# Altium integrated library Linear Technology Power Management Switching Regulator LT1074-LT8705.IntLib: 2252 symbols (part 115 of 148)
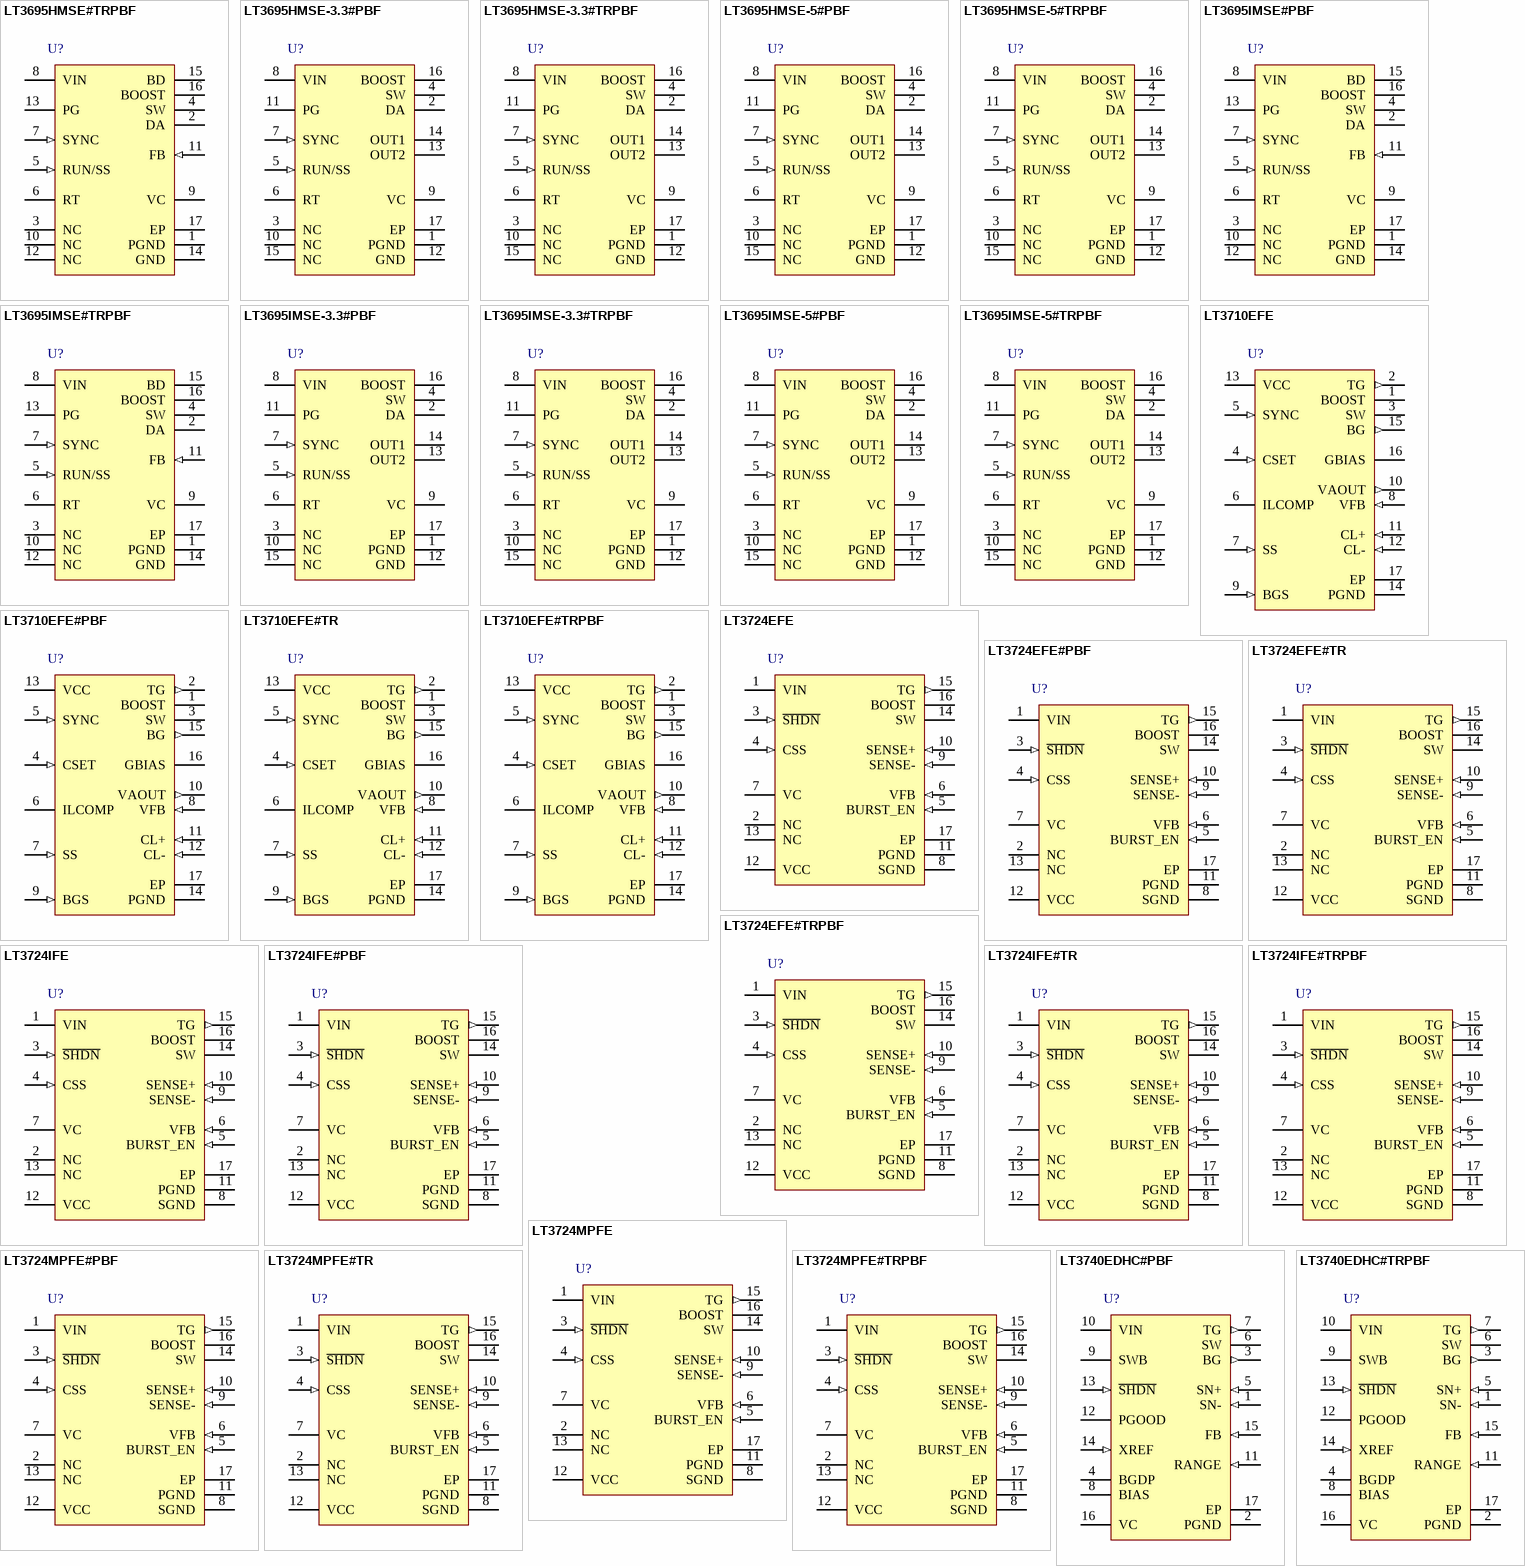
[diagram p185: symbols LT3695HMSE#TRPBF to LT3740EDHC#TRPBF]

## LT3695HMSE-3.3#PBF
designator U?
1 A Fault Tolerant Micropower Step-Down Regulator, 16-pin SOP (MSE-16-EDP), -40 to 150 degC, Pb-Free,; Manufacturer: Linear Technology; PartNumber: LT3695HMSE-3.3#PBF; Frequency Adjust Range: 250kHz - 2.2MHz; Number of Outputs: 1; Over Voltage Protection(V): 60; DatasheetVersion: Rev. A; PackageVersion: Rev. F, 05/2013; PackageReference: MSE-16; PackageDescription: 16-Pin Plastic MSOP, Exposed Die Pad, Body 4.039 x 3 mm, Pitch 0.5 mm; Supplier 1: Digi-Key; Supplier Part Number 1: LT3695HMSE-3.3#PBF-ND; Supplier 2: Farnell; Supplier Part Number 2: 1839235; Supplier 3: Newark; Supplier Part Number 3: 51R1546; RoHS: TRUE; Mounting Technology: Surface Mount; ComponentLink1Description: Manufacturer URL; ComponentLink1URL: http://www.linear.com/; ComponentLink2Description: Datasheet; ComponentLink2URL: http://cds.linear.com/docs/en/datasheet/3695fa.pdf; ComponentLink3Description: Package Specification; ComponentLink3URL: http://cds.linear.com/docs/en/packaging/05081667_F_MSE16.pdf
footprint LT-MSE-16-EDP_N (SOP, 16-Leads, Body 4.1x3.1mm, Pitch 0.5mm, Thermal Pad 2.95x1.76mm, IPC Medium Density)
footprint LT-MSE-16-EDP_L (SOP, 16-Leads, Body 4.1x3.1mm, Pitch 0.5mm, Thermal Pad 2.95x1.76mm, IPC High Density)
footprint LT-MSE-16-EDP_M (SOP, 16-Leads, Body 4.1x3.1mm, Pitch 0.5mm, Thermal Pad 2.95x1.76mm, IPC Low Density)
pins: 1 PGND (power) "This is the power ground used by the catch diode (D1 in the Block Diagram) when its anode is connected to the DA pin. The exposed pad may be soldered to the PCB in order to lower the thermal resistance.", 2 DA "Connect the anode of the catch diode (D1) to this pin. Internal circuitry senses the current through the catch diode providing frequency foldback in extreme situations.", 3 NC "No Connects. These pins are not connected to internal circuitry and must be left floating to ensure fault tolerance.", 4 SW (power) "The SW pin is the output of the internal power switch. Connect this pin to the inductor, catch diode and boost capacitor.", 5 RUN/SS (in) "The RUN/SS pin is used to put the LT3695 regulators in shutdown mode. Tie to ground to shut down the LT3695 regulators. Tie to 2.5V or more for normal operation. RUN/SS also provides a soft-start function; see the (See Datasheet)", 6 RT "Oscillator Resistor Input. Connect a resistor from this pin to ground to set the switching frequency.", 7 SYNC (in) "This is the external clock synchronization input. Ground this pin with a 100k resistor for low ripple Burst Mode operation at low output loads. Tie to 0.8V or more for pulse-skipping mode operation. Tie to a clock source for (See Datasheet)", 8 VIN (power) "The VIN pin supplies current to the internal regulator and to the internal power switch. This pin must be locally bypassed.", 9 VC "The VC pin is the output of the internal error amplifier. The voltage on this pin controls the peak switch current. Tie an RC network from this pin to ground to compensate the control loop.", 10 NC "No Connects. These pins are not connected to internal circuitry and must be left floating to ensure fault tolerance.", 11 PG (oc) "The PG pin is the open-collector output of an internal comparator. PG remains low until the FB pin (LT3695) or the OUT1,2 pins (LT3695-3.3, LT3695-5) are within 10% of the fi nal regulation voltage. PG output is valid when (See Datasheet)", 12 GND (power) "The GND pin is the ground of all the internal circuitry. Tie directly to the local GND plane.", 13 OUT2 (power) "These pins connect to the anode of the boost Schottky diode and also supply current to the internal regulator. They also connect to the internal feedback resistors and must be connected to the output.", 14 OUT1 (power) "These pins connect to the anode of the boost Schottky diode and also supply current to the internal regulator. They also connect to the internal feedback resistors and must be connected to the output.", 15 NC "No Connects. These pins are not connected to internal circuitry and must be left floating to ensure fault tolerance.", 16 BOOST "This pin is used to provide a drive voltage, higher than the input voltage, to the internal bipolar NPN power switch. Connect a capacitor (typically 0.22uF) between BOOST and SW.", 17 EP (power) "This is the power ground used by the catch diode (D1 in the Block Diagram) when its anode is connected to the DA pin. The exposed pad may be soldered to the PCB in order to lower the thermal resistance."

## LT3695HMSE-3.3#TRPBF
designator U?
1 A Fault Tolerant Micropower Step-Down Regulator, 16-pin SOP (MSE-16-EDP), -40 to 150 degC, Pb-Free, Tape and Reel; Manufacturer: Linear Technology; PartNumber: LT3695HMSE-3.3#TRPBF; Frequency Adjust Range: 250kHz - 2.2MHz; Number of Outputs: 1; Over Voltage Protection(V): 60; DatasheetVersion: Rev. A; PackageVersion: Rev. F, 05/2013; PackageReference: MSE-16; PackageDescription: 16-Pin Plastic MSOP, Exposed Die Pad, Body 4.039 x 3 mm, Pitch 0.5 mm; Supplier 1: Digi-Key; Supplier Part Number 1: LT3695HMSE-3.3#TRPBF-ND; Packing: Tape and Reel; RoHS: TRUE; Mounting Technology: Surface Mount; ComponentLink1Description: Manufacturer URL; ComponentLink1URL: http://www.linear.com/; ComponentLink2Description: Datasheet; ComponentLink2URL: http://cds.linear.com/docs/en/datasheet/3695fa.pdf; ComponentLink3Description: Package Specification; ComponentLink3URL: http://cds.linear.com/docs/en/packaging/05081667_F_MSE16.pdf
footprint LT-MSE-16-EDP_N (SOP, 16-Leads, Body 4.1x3.1mm, Pitch 0.5mm, Thermal Pad 2.95x1.76mm, IPC Medium Density)
footprint LT-MSE-16-EDP_L (SOP, 16-Leads, Body 4.1x3.1mm, Pitch 0.5mm, Thermal Pad 2.95x1.76mm, IPC High Density)
footprint LT-MSE-16-EDP_M (SOP, 16-Leads, Body 4.1x3.1mm, Pitch 0.5mm, Thermal Pad 2.95x1.76mm, IPC Low Density)
pins: 1 PGND (power) "This is the power ground used by the catch diode (D1 in the Block Diagram) when its anode is connected to the DA pin. The exposed pad may be soldered to the PCB in order to lower the thermal resistance.", 2 DA "Connect the anode of the catch diode (D1) to this pin. Internal circuitry senses the current through the catch diode providing frequency foldback in extreme situations.", 3 NC "No Connects. These pins are not connected to internal circuitry and must be left floating to ensure fault tolerance.", 4 SW (power) "The SW pin is the output of the internal power switch. Connect this pin to the inductor, catch diode and boost capacitor.", 5 RUN/SS (in) "The RUN/SS pin is used to put the LT3695 regulators in shutdown mode. Tie to ground to shut down the LT3695 regulators. Tie to 2.5V or more for normal operation. RUN/SS also provides a soft-start function; see the (See Datasheet)", 6 RT "Oscillator Resistor Input. Connect a resistor from this pin to ground to set the switching frequency.", 7 SYNC (in) "This is the external clock synchronization input. Ground this pin with a 100k resistor for low ripple Burst Mode operation at low output loads. Tie to 0.8V or more for pulse-skipping mode operation. Tie to a clock source for (See Datasheet)", 8 VIN (power) "The VIN pin supplies current to the internal regulator and to the internal power switch. This pin must be locally bypassed.", 9 VC "The VC pin is the output of the internal error amplifier. The voltage on this pin controls the peak switch current. Tie an RC network from this pin to ground to compensate the control loop.", 10 NC "No Connects. These pins are not connected to internal circuitry and must be left floating to ensure fault tolerance.", 11 PG (oc) "The PG pin is the open-collector output of an internal comparator. PG remains low until the FB pin (LT3695) or the OUT1,2 pins (LT3695-3.3, LT3695-5) are within 10% of the fi nal regulation voltage. PG output is valid when (See Datasheet)", 12 GND (power) "The GND pin is the ground of all the internal circuitry. Tie directly to the local GND plane.", 13 OUT2 (power) "These pins connect to the anode of the boost Schottky diode and also supply current to the internal regulator. They also connect to the internal feedback resistors and must be connected to the output.", 14 OUT1 (power) "These pins connect to the anode of the boost Schottky diode and also supply current to the internal regulator. They also connect to the internal feedback resistors and must be connected to the output.", 15 NC "No Connects. These pins are not connected to internal circuitry and must be left floating to ensure fault tolerance.", 16 BOOST "This pin is used to provide a drive voltage, higher than the input voltage, to the internal bipolar NPN power switch. Connect a capacitor (typically 0.22uF) between BOOST and SW.", 17 EP (power) "This is the power ground used by the catch diode (D1 in the Block Diagram) when its anode is connected to the DA pin. The exposed pad may be soldered to the PCB in order to lower the thermal resistance."

## LT3695HMSE-5#PBF
designator U?
1 A Fault Tolerant Micropower Step-Down Regulator, 16-pin SOP (MSE-16-EDP), -40 to 150 degC, Pb-Free; Manufacturer: Linear Technology; PartNumber: LT3695HMSE-5#PBF; Frequency Adjust Range: 250kHz - 2.2MHz; Number of Outputs: 1; Over Voltage Protection(V): 60; DatasheetVersion: Rev. A; PackageVersion: Rev. F, 05/2013; PackageReference: MSE-16; PackageDescription: 16-Pin Plastic MSOP, Exposed Die Pad, Body 4.039 x 3 mm, Pitch 0.5 mm; Supplier 1: Digi-Key; Supplier Part Number 1: LT3695HMSE-5#PBF-ND; Supplier 2: Farnell; Supplier Part Number 2: 1839236; Supplier 3: Newark; Supplier Part Number 3: 51R1547; RoHS: TRUE; Mounting Technology: Surface Mount; ComponentLink1Description: Manufacturer URL; ComponentLink1URL: http://www.linear.com/; ComponentLink2Description: Datasheet; ComponentLink2URL: http://cds.linear.com/docs/en/datasheet/3695fa.pdf; ComponentLink3Description: Package Specification; ComponentLink3URL: http://cds.linear.com/docs/en/packaging/05081667_F_MSE16.pdf
footprint LT-MSE-16-EDP_N (SOP, 16-Leads, Body 4.1x3.1mm, Pitch 0.5mm, Thermal Pad 2.95x1.76mm, IPC Medium Density)
footprint LT-MSE-16-EDP_L (SOP, 16-Leads, Body 4.1x3.1mm, Pitch 0.5mm, Thermal Pad 2.95x1.76mm, IPC High Density)
footprint LT-MSE-16-EDP_M (SOP, 16-Leads, Body 4.1x3.1mm, Pitch 0.5mm, Thermal Pad 2.95x1.76mm, IPC Low Density)
pins: 1 PGND (power) "This is the power ground used by the catch diode (D1 in the Block Diagram) when its anode is connected to the DA pin. The exposed pad may be soldered to the PCB in order to lower the thermal resistance.", 2 DA "Connect the anode of the catch diode (D1) to this pin. Internal circuitry senses the current through the catch diode providing frequency foldback in extreme situations.", 3 NC "No Connects. These pins are not connected to internal circuitry and must be left floating to ensure fault tolerance.", 4 SW (power) "The SW pin is the output of the internal power switch. Connect this pin to the inductor, catch diode and boost capacitor.", 5 RUN/SS (in) "The RUN/SS pin is used to put the LT3695 regulators in shutdown mode. Tie to ground to shut down the LT3695 regulators. Tie to 2.5V or more for normal operation. RUN/SS also provides a soft-start function; see the (See Datasheet)", 6 RT "Oscillator Resistor Input. Connect a resistor from this pin to ground to set the switching frequency.", 7 SYNC (in) "This is the external clock synchronization input. Ground this pin with a 100k resistor for low ripple Burst Mode operation at low output loads. Tie to 0.8V or more for pulse-skipping mode operation. Tie to a clock source for (See Datasheet)", 8 VIN (power) "The VIN pin supplies current to the internal regulator and to the internal power switch. This pin must be locally bypassed.", 9 VC "The VC pin is the output of the internal error amplifier. The voltage on this pin controls the peak switch current. Tie an RC network from this pin to ground to compensate the control loop.", 10 NC "No Connects. These pins are not connected to internal circuitry and must be left floating to ensure fault tolerance.", 11 PG (oc) "The PG pin is the open-collector output of an internal comparator. PG remains low until the FB pin (LT3695) or the OUT1,2 pins (LT3695-3.3, LT3695-5) are within 10% of the fi nal regulation voltage. PG output is valid when (See Datasheet)", 12 GND (power) "The GND pin is the ground of all the internal circuitry. Tie directly to the local GND plane.", 13 OUT2 (power) "These pins connect to the anode of the boost Schottky diode and also supply current to the internal regulator. They also connect to the internal feedback resistors and must be connected to the output.", 14 OUT1 (power) "These pins connect to the anode of the boost Schottky diode and also supply current to the internal regulator. They also connect to the internal feedback resistors and must be connected to the output.", 15 NC "No Connects. These pins are not connected to internal circuitry and must be left floating to ensure fault tolerance.", 16 BOOST "This pin is used to provide a drive voltage, higher than the input voltage, to the internal bipolar NPN power switch. Connect a capacitor (typically 0.22uF) between BOOST and SW.", 17 EP (power) "This is the power ground used by the catch diode (D1 in the Block Diagram) when its anode is connected to the DA pin. The exposed pad may be soldered to the PCB in order to lower the thermal resistance."

## LT3695HMSE-5#TRPBF
designator U?
1 A Fault Tolerant Micropower Step-Down Regulator, 16-pin SOP (MSE-16-EDP), -40 to 150 degC, Pb-Free, Tape and Reel; Manufacturer: Linear Technology; PartNumber: LT3695HMSE-5#TRPBF; Frequency Adjust Range: 250kHz - 2.2MHz; Number of Outputs: 1; Over Voltage Protection(V): 60; DatasheetVersion: Rev. A; PackageVersion: Rev. F, 05/2013; PackageReference: MSE-16; PackageDescription: 16-Pin Plastic MSOP, Exposed Die Pad, Body 4.039 x 3 mm, Pitch 0.5 mm; Supplier 1: Digi-Key; Supplier Part Number 1: LT3695HMSE-5#TRPBF-ND; Packing: Tape and Reel; RoHS: TRUE; Mounting Technology: Surface Mount; ComponentLink1Description: Manufacturer URL; ComponentLink1URL: http://www.linear.com/; ComponentLink2Description: Datasheet; ComponentLink2URL: http://cds.linear.com/docs/en/datasheet/3695fa.pdf; ComponentLink3Description: Package Specification; ComponentLink3URL: http://cds.linear.com/docs/en/packaging/05081667_F_MSE16.pdf
footprint LT-MSE-16-EDP_N (SOP, 16-Leads, Body 4.1x3.1mm, Pitch 0.5mm, Thermal Pad 2.95x1.76mm, IPC Medium Density)
footprint LT-MSE-16-EDP_L (SOP, 16-Leads, Body 4.1x3.1mm, Pitch 0.5mm, Thermal Pad 2.95x1.76mm, IPC High Density)
footprint LT-MSE-16-EDP_M (SOP, 16-Leads, Body 4.1x3.1mm, Pitch 0.5mm, Thermal Pad 2.95x1.76mm, IPC Low Density)
pins: 1 PGND (power) "This is the power ground used by the catch diode (D1 in the Block Diagram) when its anode is connected to the DA pin. The exposed pad may be soldered to the PCB in order to lower the thermal resistance.", 2 DA "Connect the anode of the catch diode (D1) to this pin. Internal circuitry senses the current through the catch diode providing frequency foldback in extreme situations.", 3 NC "No Connects. These pins are not connected to internal circuitry and must be left floating to ensure fault tolerance.", 4 SW (power) "The SW pin is the output of the internal power switch. Connect this pin to the inductor, catch diode and boost capacitor.", 5 RUN/SS (in) "The RUN/SS pin is used to put the LT3695 regulators in shutdown mode. Tie to ground to shut down the LT3695 regulators. Tie to 2.5V or more for normal operation. RUN/SS also provides a soft-start function; see the (See Datasheet)", 6 RT "Oscillator Resistor Input. Connect a resistor from this pin to ground to set the switching frequency.", 7 SYNC (in) "This is the external clock synchronization input. Ground this pin with a 100k resistor for low ripple Burst Mode operation at low output loads. Tie to 0.8V or more for pulse-skipping mode operation. Tie to a clock source for (See Datasheet)", 8 VIN (power) "The VIN pin supplies current to the internal regulator and to the internal power switch. This pin must be locally bypassed.", 9 VC "The VC pin is the output of the internal error amplifier. The voltage on this pin controls the peak switch current. Tie an RC network from this pin to ground to compensate the control loop.", 10 NC "No Connects. These pins are not connected to internal circuitry and must be left floating to ensure fault tolerance.", 11 PG (oc) "The PG pin is the open-collector output of an internal comparator. PG remains low until the FB pin (LT3695) or the OUT1,2 pins (LT3695-3.3, LT3695-5) are within 10% of the fi nal regulation voltage. PG output is valid when (See Datasheet)", 12 GND (power) "The GND pin is the ground of all the internal circuitry. Tie directly to the local GND plane.", 13 OUT2 (power) "These pins connect to the anode of the boost Schottky diode and also supply current to the internal regulator. They also connect to the internal feedback resistors and must be connected to the output.", 14 OUT1 (power) "These pins connect to the anode of the boost Schottky diode and also supply current to the internal regulator. They also connect to the internal feedback resistors and must be connected to the output.", 15 NC "No Connects. These pins are not connected to internal circuitry and must be left floating to ensure fault tolerance.", 16 BOOST "This pin is used to provide a drive voltage, higher than the input voltage, to the internal bipolar NPN power switch. Connect a capacitor (typically 0.22uF) between BOOST and SW.", 17 EP (power) "This is the power ground used by the catch diode (D1 in the Block Diagram) when its anode is connected to the DA pin. The exposed pad may be soldered to the PCB in order to lower the thermal resistance."

## LT3695IMSE#PBF
designator U?
1 A Fault Tolerant Micropower Step-Down Regulator, 16-pin SOP (MSE-16-EDP), -40 to 125 degC, Pb-Free; Manufacturer: Linear Technology; PartNumber: LT3695IMSE#PBF; Frequency Adjust Range: 250kHz - 2.2MHz; Number of Outputs: 1; Over Voltage Protection(V): 60; DatasheetVersion: Rev. A; PackageVersion: Rev. F, 05/2013; PackageReference: MSE-16; PackageDescription: 16-Pin Plastic MSOP, Exposed Die Pad, Body 4.039 x 3 mm, Pitch 0.5 mm; Supplier 1: Digi-Key; Supplier Part Number 1: LT3695IMSE#PBF-ND; RoHS: TRUE; Mounting Technology: Surface Mount; ComponentLink1Description: Manufacturer URL; ComponentLink1URL: http://www.linear.com/; ComponentLink2Description: Datasheet; ComponentLink2URL: http://cds.linear.com/docs/en/datasheet/3695fa.pdf; ComponentLink3Description: Package Specification; ComponentLink3URL: http://cds.linear.com/docs/en/packaging/05081667_F_MSE16.pdf
footprint LT-MSE-16-EDP_N (SOP, 16-Leads, Body 4.1x3.1mm, Pitch 0.5mm, Thermal Pad 2.95x1.76mm, IPC Medium Density)
footprint LT-MSE-16-EDP_L (SOP, 16-Leads, Body 4.1x3.1mm, Pitch 0.5mm, Thermal Pad 2.95x1.76mm, IPC High Density)
footprint LT-MSE-16-EDP_M (SOP, 16-Leads, Body 4.1x3.1mm, Pitch 0.5mm, Thermal Pad 2.95x1.76mm, IPC Low Density)
pins: 1 PGND (power) "This is the power ground used by the catch diode (D1 in the Block Diagram) when its anode is connected to the DA pin. The exposed pad may be soldered to the PCB in order to lower the thermal resistance.", 2 DA "Connect the anode of the catch diode (D1) to this pin. Internal circuitry senses the current through the catch diode providing frequency foldback in extreme situations.", 3 NC "No Connects. These pins are not connected to internal circuitry and must be left floating to ensure fault tolerance.", 4 SW (power) "The SW pin is the output of the internal power switch. Connect this pin to the inductor, catch diode and boost capacitor.", 5 RUN/SS (in) "The RUN/SS pin is used to put the LT3695 regulators in shutdown mode. Tie to ground to shut down the LT3695 regulators. Tie to 2.5V or more for normal operation. RUN/SS also provides a soft-start function; see the (See Datasheet)", 6 RT "Oscillator Resistor Input. Connect a resistor from this pin to ground to set the switching frequency.", 7 SYNC (in) "This is the external clock synchronization input. Ground this pin with a 100k resistor for low ripple Burst Mode operation at low output loads. Tie to 0.8V or more for pulse-skipping mode operation. Tie to a clock source for (See Datasheet)", 8 VIN (power) "The VIN pin supplies current to the internal regulator and to the internal power switch. This pin must be locally bypassed.", 9 VC "The VC pin is the output of the internal error amplifier. The voltage on this pin controls the peak switch current. Tie an RC network from this pin to ground to compensate the control loop.", 10 NC "No Connects. These pins are not connected to internal circuitry and must be left floating to ensure fault tolerance.", 11 FB (in) "The LT3695 regulates the FB pin to 0.8V. Connect the feedback resistor divider tap to this pin.", 12 NC "No Connects. These pins are not connected to internal circuitry and must be left floating to ensure fault tolerance.", 13 PG (oc) "The PG pin is the open-collector output of an internal comparator. PG remains low until the FB pin (LT3695) or the OUT1,2 pins (LT3695-3.3, LT3695-5) are within 10% of the fi nal regulation voltage. PG output is valid when (See Datasheet)", 14 GND (power) "The GND pin is the ground of all the internal circuitry. Tie directly to the local GND plane.", 15 BD (power) "This pin connects to the anode of the boost Schottky diode and also supplies current to the LT3695’s internal regulator.", 16 BOOST "This pin is used to provide a drive voltage, higher than the input voltage, to the internal bipolar NPN power switch. Connect a capacitor (typically 0.22uF) between BOOST and SW.", 17 EP (power) "This is the power ground used by the catch diode (D1 in the Block Diagram) when its anode is connected to the DA pin. The exposed pad may be soldered to the PCB in order to lower the thermal resistance."

## LT3695IMSE#TRPBF
designator U?
1 A Fault Tolerant Micropower Step-Down Regulator, 16-pin SOP (MSE-16-EDP), -40 to 125 degC, Pb-Free, Tape and Reel; Manufacturer: Linear Technology; PartNumber: LT3695IMSE#TRPBF; Frequency Adjust Range: 250kHz - 2.2MHz; Number of Outputs: 1; Over Voltage Protection(V): 60; DatasheetVersion: Rev. A; PackageVersion: Rev. F, 05/2013; PackageReference: MSE-16; PackageDescription: 16-Pin Plastic MSOP, Exposed Die Pad, Body 4.039 x 3 mm, Pitch 0.5 mm; Supplier 1: Digi-Key; Supplier Part Number 1: LT3695IMSE#TRPBF-ND; Supplier 2: Newark; Supplier Part Number 2: 13T8553; Packing: Tape and Reel; RoHS: TRUE; Mounting Technology: Surface Mount; ComponentLink1Description: Manufacturer URL; ComponentLink1URL: http://www.linear.com/; ComponentLink2Description: Datasheet; ComponentLink2URL: http://cds.linear.com/docs/en/datasheet/3695fa.pdf; ComponentLink3Description: Package Specification; ComponentLink3URL: http://cds.linear.com/docs/en/packaging/05081667_F_MSE16.pdf
footprint LT-MSE-16-EDP_N (SOP, 16-Leads, Body 4.1x3.1mm, Pitch 0.5mm, Thermal Pad 2.95x1.76mm, IPC Medium Density)
footprint LT-MSE-16-EDP_L (SOP, 16-Leads, Body 4.1x3.1mm, Pitch 0.5mm, Thermal Pad 2.95x1.76mm, IPC High Density)
footprint LT-MSE-16-EDP_M (SOP, 16-Leads, Body 4.1x3.1mm, Pitch 0.5mm, Thermal Pad 2.95x1.76mm, IPC Low Density)
pins: 1 PGND (power) "This is the power ground used by the catch diode (D1 in the Block Diagram) when its anode is connected to the DA pin. The exposed pad may be soldered to the PCB in order to lower the thermal resistance.", 2 DA "Connect the anode of the catch diode (D1) to this pin. Internal circuitry senses the current through the catch diode providing frequency foldback in extreme situations.", 3 NC "No Connects. These pins are not connected to internal circuitry and must be left floating to ensure fault tolerance.", 4 SW (power) "The SW pin is the output of the internal power switch. Connect this pin to the inductor, catch diode and boost capacitor.", 5 RUN/SS (in) "The RUN/SS pin is used to put the LT3695 regulators in shutdown mode. Tie to ground to shut down the LT3695 regulators. Tie to 2.5V or more for normal operation. RUN/SS also provides a soft-start function; see the (See Datasheet)", 6 RT "Oscillator Resistor Input. Connect a resistor from this pin to ground to set the switching frequency.", 7 SYNC (in) "This is the external clock synchronization input. Ground this pin with a 100k resistor for low ripple Burst Mode operation at low output loads. Tie to 0.8V or more for pulse-skipping mode operation. Tie to a clock source for (See Datasheet)", 8 VIN (power) "The VIN pin supplies current to the internal regulator and to the internal power switch. This pin must be locally bypassed.", 9 VC "The VC pin is the output of the internal error amplifier. The voltage on this pin controls the peak switch current. Tie an RC network from this pin to ground to compensate the control loop.", 10 NC "No Connects. These pins are not connected to internal circuitry and must be left floating to ensure fault tolerance.", 11 FB (in) "The LT3695 regulates the FB pin to 0.8V. Connect the feedback resistor divider tap to this pin.", 12 NC "No Connects. These pins are not connected to internal circuitry and must be left floating to ensure fault tolerance.", 13 PG (oc) "The PG pin is the open-collector output of an internal comparator. PG remains low until the FB pin (LT3695) or the OUT1,2 pins (LT3695-3.3, LT3695-5) are within 10% of the fi nal regulation voltage. PG output is valid when (See Datasheet)", 14 GND (power) "The GND pin is the ground of all the internal circuitry. Tie directly to the local GND plane.", 15 BD (power) "This pin connects to the anode of the boost Schottky diode and also supplies current to the LT3695’s internal regulator.", 16 BOOST "This pin is used to provide a drive voltage, higher than the input voltage, to the internal bipolar NPN power switch. Connect a capacitor (typically 0.22uF) between BOOST and SW.", 17 EP (power) "This is the power ground used by the catch diode (D1 in the Block Diagram) when its anode is connected to the DA pin. The exposed pad may be soldered to the PCB in order to lower the thermal resistance."

## LT3695IMSE-3.3#PBF
designator U?
1 A Fault Tolerant Micropower Step-Down Regulator, 16-pin SOP (MSE-16-EDP), -40 to 125 degC, Pb-Free; Manufacturer: Linear Technology; PartNumber: LT3695IMSE-3.3#PBF; Frequency Adjust Range: 250kHz - 2.2MHz; Number of Outputs: 1; Over Voltage Protection(V): 60; DatasheetVersion: Rev. A; PackageVersion: Rev. F, 05/2013; PackageReference: MSE-16; PackageDescription: 16-Pin Plastic MSOP, Exposed Die Pad, Body 4.039 x 3 mm, Pitch 0.5 mm; Supplier 1: Digi-Key; Supplier Part Number 1: LT3695IMSE-3.3#PBF-ND; Supplier 2: Newark; Supplier Part Number 2: 13T8548; RoHS: TRUE; Mounting Technology: Surface Mount; ComponentLink1Description: Manufacturer URL; ComponentLink1URL: http://www.linear.com/; ComponentLink2Description: Datasheet; ComponentLink2URL: http://cds.linear.com/docs/en/datasheet/3695fa.pdf; ComponentLink3Description: Package Specification; ComponentLink3URL: http://cds.linear.com/docs/en/packaging/05081667_F_MSE16.pdf
footprint LT-MSE-16-EDP_N (SOP, 16-Leads, Body 4.1x3.1mm, Pitch 0.5mm, Thermal Pad 2.95x1.76mm, IPC Medium Density)
footprint LT-MSE-16-EDP_L (SOP, 16-Leads, Body 4.1x3.1mm, Pitch 0.5mm, Thermal Pad 2.95x1.76mm, IPC High Density)
footprint LT-MSE-16-EDP_M (SOP, 16-Leads, Body 4.1x3.1mm, Pitch 0.5mm, Thermal Pad 2.95x1.76mm, IPC Low Density)
pins: 1 PGND (power) "This is the power ground used by the catch diode (D1 in the Block Diagram) when its anode is connected to the DA pin. The exposed pad may be soldered to the PCB in order to lower the thermal resistance.", 2 DA "Connect the anode of the catch diode (D1) to this pin. Internal circuitry senses the current through the catch diode providing frequency foldback in extreme situations.", 3 NC "No Connects. These pins are not connected to internal circuitry and must be left floating to ensure fault tolerance.", 4 SW (power) "The SW pin is the output of the internal power switch. Connect this pin to the inductor, catch diode and boost capacitor.", 5 RUN/SS (in) "The RUN/SS pin is used to put the LT3695 regulators in shutdown mode. Tie to ground to shut down the LT3695 regulators. Tie to 2.5V or more for normal operation. RUN/SS also provides a soft-start function; see the (See Datasheet)", 6 RT "Oscillator Resistor Input. Connect a resistor from this pin to ground to set the switching frequency.", 7 SYNC (in) "This is the external clock synchronization input. Ground this pin with a 100k resistor for low ripple Burst Mode operation at low output loads. Tie to 0.8V or more for pulse-skipping mode operation. Tie to a clock source for (See Datasheet)", 8 VIN (power) "The VIN pin supplies current to the internal regulator and to the internal power switch. This pin must be locally bypassed.", 9 VC "The VC pin is the output of the internal error amplifier. The voltage on this pin controls the peak switch current. Tie an RC network from this pin to ground to compensate the control loop.", 10 NC "No Connects. These pins are not connected to internal circuitry and must be left floating to ensure fault tolerance.", 11 PG (oc) "The PG pin is the open-collector output of an internal comparator. PG remains low until the FB pin (LT3695) or the OUT1,2 pins (LT3695-3.3, LT3695-5) are within 10% of the fi nal regulation voltage. PG output is valid when (See Datasheet)", 12 GND (power) "The GND pin is the ground of all the internal circuitry. Tie directly to the local GND plane.", 13 OUT2 (power) "These pins connect to the anode of the boost Schottky diode and also supply current to the internal regulator. They also connect to the internal feedback resistors and must be connected to the output.", 14 OUT1 (power) "These pins connect to the anode of the boost Schottky diode and also supply current to the internal regulator. They also connect to the internal feedback resistors and must be connected to the output.", 15 NC "No Connects. These pins are not connected to internal circuitry and must be left floating to ensure fault tolerance.", 16 BOOST "This pin is used to provide a drive voltage, higher than the input voltage, to the internal bipolar NPN power switch. Connect a capacitor (typically 0.22uF) between BOOST and SW.", 17 EP (power) "This is the power ground used by the catch diode (D1 in the Block Diagram) when its anode is connected to the DA pin. The exposed pad may be soldered to the PCB in order to lower the thermal resistance."

## LT3695IMSE-3.3#TRPBF
designator U?
1 A Fault Tolerant Micropower Step-Down Regulator, 16-pin SOP (MSE-16-EDP), -40 to 125 degC, Pb-Free, Tape and Reel; Manufacturer: Linear Technology; PartNumber: LT3695IMSE-3.3#TRPBF; Frequency Adjust Range: 250kHz - 2.2MHz; Number of Outputs: 1; Over Voltage Protection(V): 60; DatasheetVersion: Rev. A; PackageVersion: Rev. F, 05/2013; PackageReference: MSE-16; PackageDescription: 16-Pin Plastic MSOP, Exposed Die Pad, Body 4.039 x 3 mm, Pitch 0.5 mm; Supplier 1: Digi-Key; Supplier Part Number 1: LT3695IMSE-3.3#TRPBF-ND; Packing: Tape and Reel; RoHS: TRUE; Mounting Technology: Surface Mount; ComponentLink1Description: Manufacturer URL; ComponentLink1URL: http://www.linear.com/; ComponentLink2Description: Datasheet; ComponentLink2URL: http://cds.linear.com/docs/en/datasheet/3695fa.pdf; ComponentLink3Description: Package Specification; ComponentLink3URL: http://cds.linear.com/docs/en/packaging/05081667_F_MSE16.pdf
footprint LT-MSE-16-EDP_N (SOP, 16-Leads, Body 4.1x3.1mm, Pitch 0.5mm, Thermal Pad 2.95x1.76mm, IPC Medium Density)
footprint LT-MSE-16-EDP_L (SOP, 16-Leads, Body 4.1x3.1mm, Pitch 0.5mm, Thermal Pad 2.95x1.76mm, IPC High Density)
footprint LT-MSE-16-EDP_M (SOP, 16-Leads, Body 4.1x3.1mm, Pitch 0.5mm, Thermal Pad 2.95x1.76mm, IPC Low Density)
pins: 1 PGND (power) "This is the power ground used by the catch diode (D1 in the Block Diagram) when its anode is connected to the DA pin. The exposed pad may be soldered to the PCB in order to lower the thermal resistance.", 2 DA "Connect the anode of the catch diode (D1) to this pin. Internal circuitry senses the current through the catch diode providing frequency foldback in extreme situations.", 3 NC "No Connects. These pins are not connected to internal circuitry and must be left floating to ensure fault tolerance.", 4 SW (power) "The SW pin is the output of the internal power switch. Connect this pin to the inductor, catch diode and boost capacitor.", 5 RUN/SS (in) "The RUN/SS pin is used to put the LT3695 regulators in shutdown mode. Tie to ground to shut down the LT3695 regulators. Tie to 2.5V or more for normal operation. RUN/SS also provides a soft-start function; see the (See Datasheet)", 6 RT "Oscillator Resistor Input. Connect a resistor from this pin to ground to set the switching frequency.", 7 SYNC (in) "This is the external clock synchronization input. Ground this pin with a 100k resistor for low ripple Burst Mode operation at low output loads. Tie to 0.8V or more for pulse-skipping mode operation. Tie to a clock source for (See Datasheet)", 8 VIN (power) "The VIN pin supplies current to the internal regulator and to the internal power switch. This pin must be locally bypassed.", 9 VC "The VC pin is the output of the internal error amplifier. The voltage on this pin controls the peak switch current. Tie an RC network from this pin to ground to compensate the control loop.", 10 NC "No Connects. These pins are not connected to internal circuitry and must be left floating to ensure fault tolerance.", 11 PG (oc) "The PG pin is the open-collector output of an internal comparator. PG remains low until the FB pin (LT3695) or the OUT1,2 pins (LT3695-3.3, LT3695-5) are within 10% of the fi nal regulation voltage. PG output is valid when (See Datasheet)", 12 GND (power) "The GND pin is the ground of all the internal circuitry. Tie directly to the local GND plane.", 13 OUT2 (power) "These pins connect to the anode of the boost Schottky diode and also supply current to the internal regulator. They also connect to the internal feedback resistors and must be connected to the output.", 14 OUT1 (power) "These pins connect to the anode of the boost Schottky diode and also supply current to the internal regulator. They also connect to the internal feedback resistors and must be connected to the output.", 15 NC "No Connects. These pins are not connected to internal circuitry and must be left floating to ensure fault tolerance.", 16 BOOST "This pin is used to provide a drive voltage, higher than the input voltage, to the internal bipolar NPN power switch. Connect a capacitor (typically 0.22uF) between BOOST and SW.", 17 EP (power) "This is the power ground used by the catch diode (D1 in the Block Diagram) when its anode is connected to the DA pin. The exposed pad may be soldered to the PCB in order to lower the thermal resistance."

## LT3695IMSE-5#PBF
designator U?
1 A Fault Tolerant Micropower Step-Down Regulator, 16-pin SOP (MSE-16-EDP), -40 to 125 degC, Pb-Free; Manufacturer: Linear Technology; PartNumber: LT3695IMSE-5#PBF; Frequency Adjust Range: 250kHz - 2.2MHz; Number of Outputs: 1; Over Voltage Protection(V): 60; DatasheetVersion: Rev. A; PackageVersion: Rev. F, 05/2013; PackageReference: MSE-16; PackageDescription: 16-Pin Plastic MSOP, Exposed Die Pad, Body 4.039 x 3 mm, Pitch 0.5 mm; Supplier 1: Digi-Key; Supplier Part Number 1: LT3695IMSE-5#PBF-ND; RoHS: TRUE; Mounting Technology: Surface Mount; ComponentLink1Description: Manufacturer URL; ComponentLink1URL: http://www.linear.com/; ComponentLink2Description: Datasheet; ComponentLink2URL: http://cds.linear.com/docs/en/datasheet/3695fa.pdf; ComponentLink3Description: Package Specification; ComponentLink3URL: http://cds.linear.com/docs/en/packaging/05081667_F_MSE16.pdf
footprint LT-MSE-16-EDP_N (SOP, 16-Leads, Body 4.1x3.1mm, Pitch 0.5mm, Thermal Pad 2.95x1.76mm, IPC Medium Density)
footprint LT-MSE-16-EDP_L (SOP, 16-Leads, Body 4.1x3.1mm, Pitch 0.5mm, Thermal Pad 2.95x1.76mm, IPC High Density)
footprint LT-MSE-16-EDP_M (SOP, 16-Leads, Body 4.1x3.1mm, Pitch 0.5mm, Thermal Pad 2.95x1.76mm, IPC Low Density)
pins: 1 PGND (power) "This is the power ground used by the catch diode (D1 in the Block Diagram) when its anode is connected to the DA pin. The exposed pad may be soldered to the PCB in order to lower the thermal resistance.", 2 DA "Connect the anode of the catch diode (D1) to this pin. Internal circuitry senses the current through the catch diode providing frequency foldback in extreme situations.", 3 NC "No Connects. These pins are not connected to internal circuitry and must be left floating to ensure fault tolerance.", 4 SW (power) "The SW pin is the output of the internal power switch. Connect this pin to the inductor, catch diode and boost capacitor.", 5 RUN/SS (in) "The RUN/SS pin is used to put the LT3695 regulators in shutdown mode. Tie to ground to shut down the LT3695 regulators. Tie to 2.5V or more for normal operation. RUN/SS also provides a soft-start function; see the (See Datasheet)", 6 RT "Oscillator Resistor Input. Connect a resistor from this pin to ground to set the switching frequency.", 7 SYNC (in) "This is the external clock synchronization input. Ground this pin with a 100k resistor for low ripple Burst Mode operation at low output loads. Tie to 0.8V or more for pulse-skipping mode operation. Tie to a clock source for (See Datasheet)", 8 VIN (power) "The VIN pin supplies current to the internal regulator and to the internal power switch. This pin must be locally bypassed.", 9 VC "The VC pin is the output of the internal error amplifier. The voltage on this pin controls the peak switch current. Tie an RC network from this pin to ground to compensate the control loop.", 10 NC "No Connects. These pins are not connected to internal circuitry and must be left floating to ensure fault tolerance.", 11 PG (oc) "The PG pin is the open-collector output of an internal comparator. PG remains low until the FB pin (LT3695) or the OUT1,2 pins (LT3695-3.3, LT3695-5) are within 10% of the fi nal regulation voltage. PG output is valid when (See Datasheet)", 12 GND (power) "The GND pin is the ground of all the internal circuitry. Tie directly to the local GND plane.", 13 OUT2 (power) "These pins connect to the anode of the boost Schottky diode and also supply current to the internal regulator. They also connect to the internal feedback resistors and must be connected to the output.", 14 OUT1 (power) "These pins connect to the anode of the boost Schottky diode and also supply current to the internal regulator. They also connect to the internal feedback resistors and must be connected to the output.", 15 NC "No Connects. These pins are not connected to internal circuitry and must be left floating to ensure fault tolerance.", 16 BOOST "This pin is used to provide a drive voltage, higher than the input voltage, to the internal bipolar NPN power switch. Connect a capacitor (typically 0.22uF) between BOOST and SW.", 17 EP (power) "This is the power ground used by the catch diode (D1 in the Block Diagram) when its anode is connected to the DA pin. The exposed pad may be soldered to the PCB in order to lower the thermal resistance."

## LT3695IMSE-5#TRPBF
designator U?
1 A Fault Tolerant Micropower Step-Down Regulator, 16-pin SOP (MSE-16-EDP), -40 to 125 degC, Pb-Free, Tape and Reel; Manufacturer: Linear Technology; PartNumber: LT3695IMSE-5#TRPBF; Frequency Adjust Range: 250kHz - 2.2MHz; Number of Outputs: 1; Over Voltage Protection(V): 60; DatasheetVersion: Rev. A; PackageVersion: Rev. F, 05/2013; PackageReference: MSE-16; PackageDescription: 16-Pin Plastic MSOP, Exposed Die Pad, Body 4.039 x 3 mm, Pitch 0.5 mm; Supplier 1: Digi-Key; Supplier Part Number 1: LT3695IMSE-5#TRPBF-ND; Packing: Tape and Reel; RoHS: TRUE; Mounting Technology: Surface Mount; ComponentLink1Description: Manufacturer URL; ComponentLink1URL: http://www.linear.com/; ComponentLink2Description: Datasheet; ComponentLink2URL: http://cds.linear.com/docs/en/datasheet/3695fa.pdf; ComponentLink3Description: Package Specification; ComponentLink3URL: http://cds.linear.com/docs/en/packaging/05081667_F_MSE16.pdf
footprint LT-MSE-16-EDP_N (SOP, 16-Leads, Body 4.1x3.1mm, Pitch 0.5mm, Thermal Pad 2.95x1.76mm, IPC Medium Density)
footprint LT-MSE-16-EDP_L (SOP, 16-Leads, Body 4.1x3.1mm, Pitch 0.5mm, Thermal Pad 2.95x1.76mm, IPC High Density)
footprint LT-MSE-16-EDP_M (SOP, 16-Leads, Body 4.1x3.1mm, Pitch 0.5mm, Thermal Pad 2.95x1.76mm, IPC Low Density)
pins: 1 PGND (power) "This is the power ground used by the catch diode (D1 in the Block Diagram) when its anode is connected to the DA pin. The exposed pad may be soldered to the PCB in order to lower the thermal resistance.", 2 DA "Connect the anode of the catch diode (D1) to this pin. Internal circuitry senses the current through the catch diode providing frequency foldback in extreme situations.", 3 NC "No Connects. These pins are not connected to internal circuitry and must be left floating to ensure fault tolerance.", 4 SW (power) "The SW pin is the output of the internal power switch. Connect this pin to the inductor, catch diode and boost capacitor.", 5 RUN/SS (in) "The RUN/SS pin is used to put the LT3695 regulators in shutdown mode. Tie to ground to shut down the LT3695 regulators. Tie to 2.5V or more for normal operation. RUN/SS also provides a soft-start function; see the (See Datasheet)", 6 RT "Oscillator Resistor Input. Connect a resistor from this pin to ground to set the switching frequency.", 7 SYNC (in) "This is the external clock synchronization input. Ground this pin with a 100k resistor for low ripple Burst Mode operation at low output loads. Tie to 0.8V or more for pulse-skipping mode operation. Tie to a clock source for (See Datasheet)", 8 VIN (power) "The VIN pin supplies current to the internal regulator and to the internal power switch. This pin must be locally bypassed.", 9 VC "The VC pin is the output of the internal error amplifier. The voltage on this pin controls the peak switch current. Tie an RC network from this pin to ground to compensate the control loop.", 10 NC "No Connects. These pins are not connected to internal circuitry and must be left floating to ensure fault tolerance.", 11 PG (oc) "The PG pin is the open-collector output of an internal comparator. PG remains low until the FB pin (LT3695) or the OUT1,2 pins (LT3695-3.3, LT3695-5) are within 10% of the fi nal regulation voltage. PG output is valid when (See Datasheet)", 12 GND (power) "The GND pin is the ground of all the internal circuitry. Tie directly to the local GND plane.", 13 OUT2 (power) "These pins connect to the anode of the boost Schottky diode and also supply current to the internal regulator. They also connect to the internal feedback resistors and must be connected to the output.", 14 OUT1 (power) "These pins connect to the anode of the boost Schottky diode and also supply current to the internal regulator. They also connect to the internal feedback resistors and must be connected to the output.", 15 NC "No Connects. These pins are not connected to internal circuitry and must be left floating to ensure fault tolerance.", 16 BOOST "This pin is used to provide a drive voltage, higher than the input voltage, to the internal bipolar NPN power switch. Connect a capacitor (typically 0.22uF) between BOOST and SW.", 17 EP (power) "This is the power ground used by the catch diode (D1 in the Block Diagram) when its anode is connected to the DA pin. The exposed pad may be soldered to the PCB in order to lower the thermal resistance."

## LT3710EFE
designator U?
Secondary Side Synchronous Post Regulator, Auxiliary Output in Isolated Power Supplies, 16-pin SOP (FE-16-EPV-BA), -40 to 125 degC; Manufacturer: Linear Technology; PartNumber: LT3710EFE; Number of Outputs: 1; PackageVersion: Rev. I, 05/2011; PackageReference: FE-16; PackageDescription: 16-Pin Plastic TSSOP, Body 5 x 4.4 mm, Pitch 0.65 mm; Supplier 1: Digi-Key; Supplier Part Number 1: LT3710EFE-ND; RoHS: FALSE; Mounting Technology: Surface Mount; ComponentLink1Description: Manufacturer URL; ComponentLink1URL: http://www.linear.com/; ComponentLink2Description: Datasheet; ComponentLink2URL: http://cds.linear.com/docs/en/datasheet/3710f.pdf; ComponentLink3Description: Package Specification; ComponentLink3URL: http://cds.linear.com/docs/en/packaging/05081663_J_FE16(BA).pdf
footprint LT-FE-16-EPV-BA_N (SOP, 16-Leads, Body 5x4.4mm, Pitch 0.65mm, Thermal Pad 2.74x2.74mm, IPC Medium Density)
footprint LT-FE-16-EPV-BA_L (SOP, 16-Leads, Body 5x4.4mm, Pitch 0.65mm, Thermal Pad 2.74x2.74mm, IPC High Density)
footprint LT-FE-16-EPV-BA_M (SOP, 16-Leads, Body 5x4.4mm, Pitch 0.65mm, Thermal Pad 2.74x2.74mm, IPC Low Density)
pins: 1 BOOST "Topside (Boosted) Driver Supply. This pin is used to bootstrap and supply the topside power switch gate drive circuitry. In normal operation VBOOST is powered from the internally generated 8V GBIAS, VBOOST = VSW + 8.2V when (See Datasheet)", 2 TG (out) "Topside (Boosted) N-Channel MOSFET Driver. When TGATE is on, the voltage is equal to VSW + 6V.", 3 SW "Switch Node Connection to Inductor.", 4 CSET (in) "Oscillator Timing Pin. The capacitor on this pin sets the PWM switching frequency.", 5 SYNC (in) "Synchronization Input. This pin should be connected to the secondary side output of the power transformer with a series resistor. A filtering capacitor of 10pF is recommended.", 6 ILCOMP "Current Limit Amplifier Compensation Node. At current limit, CA1 pulls down on this pin to regulate the output current.", 7 SS (in) "Soft-Start. A capacitor on this pin sets the output ramp up rate. The typical time for SS to reach the programmed level is (C ?0.8V)/10uA.", 8 VFB (in) "Voltage Amplifier Inverting Input. A resistor divider to this pin sets the output voltage. Nominal voltage at this pin is 0.8V.", 9 BGS (in) "Bottom Gate Switching Control. CA2 monitors the inductor current and prohibits BGATE from turning on when the inductor current is low (below 8mV across the current sense resistor RS1) to allow discontinous mode operation. (See Datasheet)", 10 VAOUT (out) "Voltage Amplifier Output.", 11 CL+ (in) "Current Limit Amplifier Positive Input. The threshold is set at 70mV.", 12 CL- (in) "Current Limit Amplifier Negative Input. When used, CL- is connected to the output capacitor side of the current + sense resistor and CL+ is connected to the inductor side of the current sense resistor.", 13 VCC (power) "Supply of the IC. For proper bypassing, a low ESR capacitor is required.", 14 PGND (power) "Ground of the Bottom Side N-Channel MOSFET Driver.", 15 BG (out) "Bottom Side N-Channel MOSFET Driver.", 16 GBIAS "8V Regulator Output for Boostrapping VBOOST . A bypass capacitor of at least 2uF is needed.", 17 EP (power) "Connect to PGND (Pin 14)."